# Altium integrated library TI Data Converters Digital to Analog Converter.IntLib: 1533 symbols (part 79 of 99)
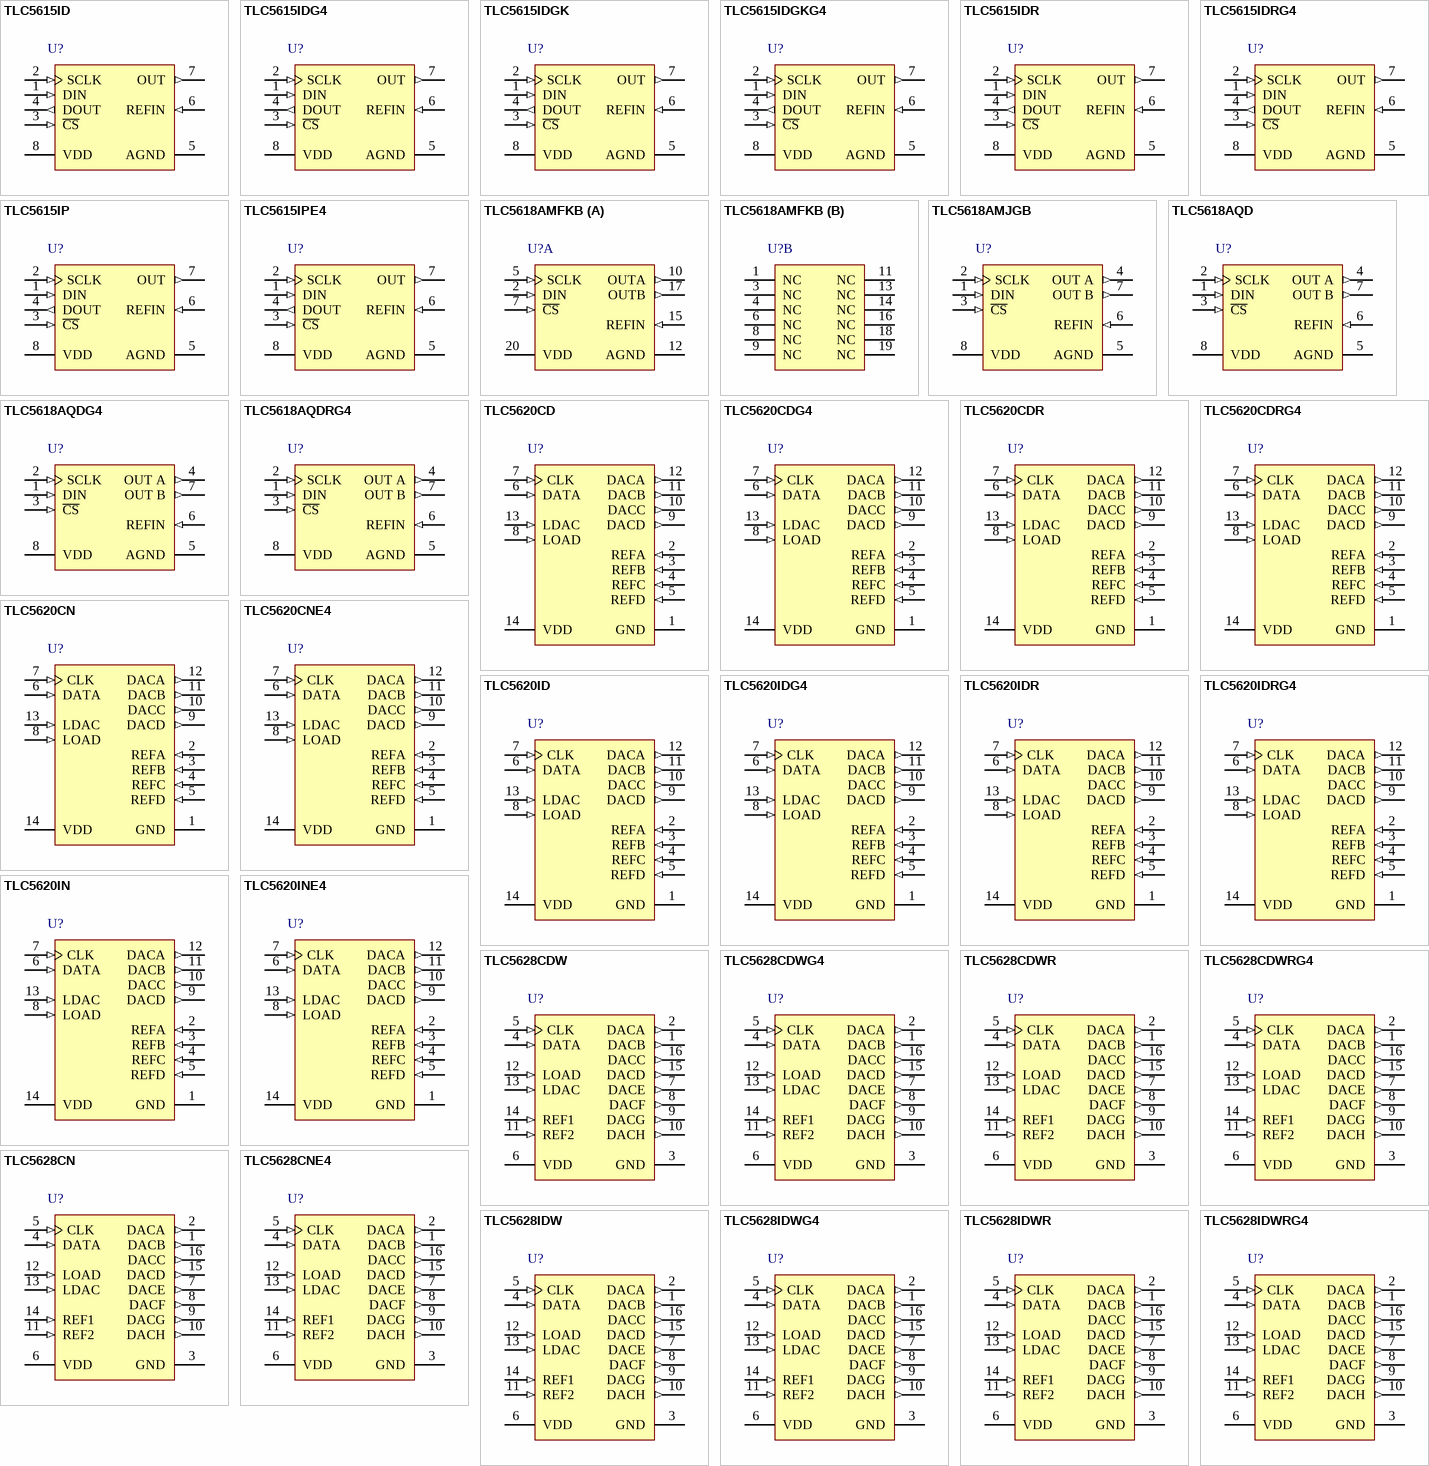
[diagram p151: symbols TLC5615ID to TLC5628IDWRG4]

## TLC5620IDG4
designator U?
8-Bit, 10 us Quad DAC, Serial Input, Programmable for 1 x or 2 x Output, Simultaneous Update, Low Power, -40 to 85 degC, 14-pin SOIC (D14), Green (RoHS & no Sb/Br); Manufacturer: Texas Instruments; PartNumber: TLC5620IDG4; DAC Channels: 4; DNL(Max)(+/-LSB): 0.9; INL(Max)(+/-LSB): 1; Interface: Serial SPI; Power Consumption(Typ)(mW): 8; Settling Time(us): 10; SubFamily: Precision DAC (=<10MSPS); DatasheetVersion: SLAS081E; PackageVersion: 4040047-5/M, 06/2011; PackageReference: D14; PackageDescription: 14-Pin Plastic Small Outline, Body 8.65 x 3.9 mm, Pitch 1.27 mm; Supplier 1: Digi-Key; Supplier Part Number 1: TLC5620IDG4-ND; Supplier 2: Mouser; Supplier Part Number 2: 595-TLC5620IDG4; Eco-Plan: Green (RoHS & no Sb/Br); Resolution(Bits): 8; Mounting Technology: Surface Mount; Code_JEDEC: MS-012; ComponentLink1Description: Manufacturer URL; ComponentLink1URL: http://www.ti.com/; ComponentLink2Description: Datasheet; ComponentLink2URL: http://www.ti.com/general/docs/lit/getliterature.tsp?genericPartNumber=TLC5620&fileType=pdf; ComponentLink3Description: Package Specification; ComponentLink3URL: http://www.ti.com/lit/ml/mpds177g/mpds177g.pdf
footprint TI-D14_N (SOIC, 14-Leads, Body 8.65x3.9mm, Pitch 1.27mm, IPC Medium Density)
footprint TI-D14_L (SOIC, 14-Leads, Body 8.65x3.9mm, Pitch 1.27mm, IPC High Density)
footprint TI-D14_M (SOIC, 14-Leads, Body 8.65x3.9mm, Pitch 1.27mm, IPC Low Density)
pins: 1 GND (power) "Ground return and reference", 2 REFA (in) "Reference voltage input to DAC A. This voltage defines the output analog range.", 3 REFB (in) "Reference voltage input to DAC B. This voltage defines the output analog range.", 4 REFC (in) "Reference voltage input to DAC C. This voltage defines the output analog range.", 5 REFD (in) "Reference voltage input to DAC D. This voltage defines the output analog range.", 6 DATA (in) "Serial interface digital data input. The digital code for the DAC is clocked into the serial interface register serially. Each data bit is clocked into the register on the falling edge of the clock signal.", 7 CLK (in) "Serial interface clock. The input digital data is shifted into the serial interface register on the falling edge of the clock applied to the CLK terminal.", 8 LOAD (in) "Serial interface load control. When the LDAC terminal is low, the falling edge of the LOAD signal latches the digital data into the output latch and immediately produces the analog voltage at the DAC output terminal.", 9 DACD (out) "DAC D analog output", 10 DACC (out) "DAC C analog output", 11 DACB (out) "DAC B analog output", 12 DACA (out) "DAC A analog output", 13 LDAC (in) "Load DAC. When this signal is high, no DAC output updates occur when the input digital data is read into the serial interface. The DAC outputs are only updated when LDAC is taken from high to low.", 14 VDD (power) "Positive supply voltage"

## TLC5620IDR
designator U?
8-Bit, 10 us Quad DAC, Serial Input, Programmable for 1 x or 2 x Output, Simultaneous Update, Low Power, -40 to 85 degC, 14-pin SOIC (D14), Green (RoHS & no Sb/Br); Manufacturer: Texas Instruments; PartNumber: TLC5620IDR; DAC Channels: 4; DNL(Max)(+/-LSB): 0.9; INL(Max)(+/-LSB): 1; Interface: Serial SPI; Power Consumption(Typ)(mW): 8; Settling Time(us): 10; SubFamily: Precision DAC (=<10MSPS); DatasheetVersion: SLAS081E; PackageVersion: 4040047-5/M, 06/2011; PackageReference: D14; PackageDescription: 14-Pin Plastic Small Outline, Body 8.65 x 3.9 mm, Pitch 1.27 mm; Supplier 1: Digi-Key; Supplier Part Number 1: 296-1339-2-ND; Supplier 2: Digi-Key; Supplier Part Number 2: 296-1339-1-ND; Supplier 3: Digi-Key; Supplier Part Number 3: 296-1339-6-ND; Supplier 4: Mouser; Supplier Part Number 4: 595-TLC5620IDR; Eco-Plan: Green (RoHS & no Sb/Br); Resolution(Bits): 8; Mounting Technology: Surface Mount; Code_JEDEC: MS-012; ComponentLink1Description: Manufacturer URL; ComponentLink1URL: http://www.ti.com/; ComponentLink2Description: Datasheet; ComponentLink2URL: http://www.ti.com/general/docs/lit/getliterature.tsp?genericPartNumber=TLC5620&fileType=pdf; ComponentLink3Description: Package Specification; ComponentLink3URL: http://www.ti.com/lit/ml/mpds177g/mpds177g.pdf
footprint TI-D14_N (SOIC, 14-Leads, Body 8.65x3.9mm, Pitch 1.27mm, IPC Medium Density)
footprint TI-D14_L (SOIC, 14-Leads, Body 8.65x3.9mm, Pitch 1.27mm, IPC High Density)
footprint TI-D14_M (SOIC, 14-Leads, Body 8.65x3.9mm, Pitch 1.27mm, IPC Low Density)
pins: 1 GND (power) "Ground return and reference", 2 REFA (in) "Reference voltage input to DAC A. This voltage defines the output analog range.", 3 REFB (in) "Reference voltage input to DAC B. This voltage defines the output analog range.", 4 REFC (in) "Reference voltage input to DAC C. This voltage defines the output analog range.", 5 REFD (in) "Reference voltage input to DAC D. This voltage defines the output analog range.", 6 DATA (in) "Serial interface digital data input. The digital code for the DAC is clocked into the serial interface register serially. Each data bit is clocked into the register on the falling edge of the clock signal.", 7 CLK (in) "Serial interface clock. The input digital data is shifted into the serial interface register on the falling edge of the clock applied to the CLK terminal.", 8 LOAD (in) "Serial interface load control. When the LDAC terminal is low, the falling edge of the LOAD signal latches the digital data into the output latch and immediately produces the analog voltage at the DAC output terminal.", 9 DACD (out) "DAC D analog output", 10 DACC (out) "DAC C analog output", 11 DACB (out) "DAC B analog output", 12 DACA (out) "DAC A analog output", 13 LDAC (in) "Load DAC. When this signal is high, no DAC output updates occur when the input digital data is read into the serial interface. The DAC outputs are only updated when LDAC is taken from high to low.", 14 VDD (power) "Positive supply voltage"

## TLC5620IDRG4
designator U?
8-Bit, 10 us Quad DAC, Serial Input, Programmable for 1 x or 2 x Output, Simultaneous Update, Low Power, -40 to 85 degC, 14-pin SOIC (D14), Green (RoHS & no Sb/Br); Manufacturer: Texas Instruments; PartNumber: TLC5620IDRG4; DAC Channels: 4; DNL(Max)(+/-LSB): 0.9; INL(Max)(+/-LSB): 1; Interface: Serial SPI; Power Consumption(Typ)(mW): 8; Settling Time(us): 10; SubFamily: Precision DAC (=<10MSPS); DatasheetVersion: SLAS081E; PackageVersion: 4040047-5/M, 06/2011; PackageReference: D14; PackageDescription: 14-Pin Plastic Small Outline, Body 8.65 x 3.9 mm, Pitch 1.27 mm; Supplier 1: Digi-Key; Supplier Part Number 1: TLC5620IDRG4-ND; Supplier 2: Mouser; Supplier Part Number 2: 595-TLC5620IDRG4; Eco-Plan: Green (RoHS & no Sb/Br); Resolution(Bits): 8; Mounting Technology: Surface Mount; Code_JEDEC: MS-012; ComponentLink1Description: Manufacturer URL; ComponentLink1URL: http://www.ti.com/; ComponentLink2Description: Datasheet; ComponentLink2URL: http://www.ti.com/general/docs/lit/getliterature.tsp?genericPartNumber=TLC5620&fileType=pdf; ComponentLink3Description: Package Specification; ComponentLink3URL: http://www.ti.com/lit/ml/mpds177g/mpds177g.pdf
footprint TI-D14_N (SOIC, 14-Leads, Body 8.65x3.9mm, Pitch 1.27mm, IPC Medium Density)
footprint TI-D14_L (SOIC, 14-Leads, Body 8.65x3.9mm, Pitch 1.27mm, IPC High Density)
footprint TI-D14_M (SOIC, 14-Leads, Body 8.65x3.9mm, Pitch 1.27mm, IPC Low Density)
pins: 1 GND (power) "Ground return and reference", 2 REFA (in) "Reference voltage input to DAC A. This voltage defines the output analog range.", 3 REFB (in) "Reference voltage input to DAC B. This voltage defines the output analog range.", 4 REFC (in) "Reference voltage input to DAC C. This voltage defines the output analog range.", 5 REFD (in) "Reference voltage input to DAC D. This voltage defines the output analog range.", 6 DATA (in) "Serial interface digital data input. The digital code for the DAC is clocked into the serial interface register serially. Each data bit is clocked into the register on the falling edge of the clock signal.", 7 CLK (in) "Serial interface clock. The input digital data is shifted into the serial interface register on the falling edge of the clock applied to the CLK terminal.", 8 LOAD (in) "Serial interface load control. When the LDAC terminal is low, the falling edge of the LOAD signal latches the digital data into the output latch and immediately produces the analog voltage at the DAC output terminal.", 9 DACD (out) "DAC D analog output", 10 DACC (out) "DAC C analog output", 11 DACB (out) "DAC B analog output", 12 DACA (out) "DAC A analog output", 13 LDAC (in) "Load DAC. When this signal is high, no DAC output updates occur when the input digital data is read into the serial interface. The DAC outputs are only updated when LDAC is taken from high to low.", 14 VDD (power) "Positive supply voltage"

## TLC5620IN
designator U?
8-Bit, 10 us Quad DAC, Serial Input, Programmable for 1 x or 2 x Output, Simultaneous Update, Low Power, -40 to 85 degC, 14-pin DIP (N14), Pb-Free (RoHS); Manufacturer: Texas Instruments; PartNumber: TLC5620IN; DAC Channels: 4; DNL(Max)(+/-LSB): 0.9; INL(Max)(+/-LSB): 1; Interface: Serial SPI; Power Consumption(Typ)(mW): 8; Settling Time(us): 10; SubFamily: Precision DAC (=<10MSPS); DatasheetVersion: SLAS081E; PackageVersion: 4040049/E, 12/2002; PackageReference: N14; PackageDescription: 14-Pin Plastic In-Line, Body 19.305 x 6.35 mm, Pitch 2.54 mm; Supplier 1: Digi-Key; Supplier Part Number 1: 296-3012-5-ND; Supplier 2: Mouser; Supplier Part Number 2: 595-TLC5620IN; Eco-Plan: Pb-Free (RoHS); Resolution(Bits): 8; Mounting Technology: Through Hole; Code_JEDEC: MS-001; ComponentLink1Description: Manufacturer URL; ComponentLink1URL: http://www.ti.com/; ComponentLink2Description: Datasheet; ComponentLink2URL: http://www.ti.com/general/docs/lit/getliterature.tsp?genericPartNumber=TLC5620&fileType=pdf; ComponentLink3Description: Package Specification; ComponentLink3URL: http://www.ti.com/lit/ml/mpdi002c/mpdi002c.pdf
footprint TI-N14 (DIP, 14-Leads, Body 19.305x6.35mm, Pitch 2.54mm)
pins: 1 GND (power) "Ground return and reference", 2 REFA (in) "Reference voltage input to DAC A. This voltage defines the output analog range.", 3 REFB (in) "Reference voltage input to DAC B. This voltage defines the output analog range.", 4 REFC (in) "Reference voltage input to DAC C. This voltage defines the output analog range.", 5 REFD (in) "Reference voltage input to DAC D. This voltage defines the output analog range.", 6 DATA (in) "Serial interface digital data input. The digital code for the DAC is clocked into the serial interface register serially. Each data bit is clocked into the register on the falling edge of the clock signal.", 7 CLK (in) "Serial interface clock. The input digital data is shifted into the serial interface register on the falling edge of the clock applied to the CLK terminal.", 8 LOAD (in) "Serial interface load control. When the LDAC terminal is low, the falling edge of the LOAD signal latches the digital data into the output latch and immediately produces the analog voltage at the DAC output terminal.", 9 DACD (out) "DAC D analog output", 10 DACC (out) "DAC C analog output", 11 DACB (out) "DAC B analog output", 12 DACA (out) "DAC A analog output", 13 LDAC (in) "Load DAC. When this signal is high, no DAC output updates occur when the input digital data is read into the serial interface. The DAC outputs are only updated when LDAC is taken from high to low.", 14 VDD (power) "Positive supply voltage"

## TLC5620INE4
designator U?
8-Bit, 10 us Quad DAC, Serial Input, Programmable for 1 x or 2 x Output, Simultaneous Update, Low Power, -40 to 85 degC, 14-pin DIP (N14), Pb-Free (RoHS); Manufacturer: Texas Instruments; PartNumber: TLC5620INE4; DAC Channels: 4; DNL(Max)(+/-LSB): 0.9; INL(Max)(+/-LSB): 1; Interface: Serial SPI; Power Consumption(Typ)(mW): 8; Settling Time(us): 10; SubFamily: Precision DAC (=<10MSPS); DatasheetVersion: SLAS081E; PackageVersion: 4040049/E, 12/2002; PackageReference: N14; PackageDescription: 14-Pin Plastic In-Line, Body 19.305 x 6.35 mm, Pitch 2.54 mm; Supplier 1: Digi-Key; Supplier Part Number 1: TLC5620INE4-ND; Supplier 2: Mouser; Supplier Part Number 2: 595-TLC5620INE4; Eco-Plan: Pb-Free (RoHS); Resolution(Bits): 8; Mounting Technology: Through Hole; Code_JEDEC: MS-001; ComponentLink1Description: Manufacturer URL; ComponentLink1URL: http://www.ti.com/; ComponentLink2Description: Datasheet; ComponentLink2URL: http://www.ti.com/general/docs/lit/getliterature.tsp?genericPartNumber=TLC5620&fileType=pdf; ComponentLink3Description: Package Specification; ComponentLink3URL: http://www.ti.com/lit/ml/mpdi002c/mpdi002c.pdf
footprint TI-N14 (DIP, 14-Leads, Body 19.305x6.35mm, Pitch 2.54mm)
pins: 1 GND (power) "Ground return and reference", 2 REFA (in) "Reference voltage input to DAC A. This voltage defines the output analog range.", 3 REFB (in) "Reference voltage input to DAC B. This voltage defines the output analog range.", 4 REFC (in) "Reference voltage input to DAC C. This voltage defines the output analog range.", 5 REFD (in) "Reference voltage input to DAC D. This voltage defines the output analog range.", 6 DATA (in) "Serial interface digital data input. The digital code for the DAC is clocked into the serial interface register serially. Each data bit is clocked into the register on the falling edge of the clock signal.", 7 CLK (in) "Serial interface clock. The input digital data is shifted into the serial interface register on the falling edge of the clock applied to the CLK terminal.", 8 LOAD (in) "Serial interface load control. When the LDAC terminal is low, the falling edge of the LOAD signal latches the digital data into the output latch and immediately produces the analog voltage at the DAC output terminal.", 9 DACD (out) "DAC D analog output", 10 DACC (out) "DAC C analog output", 11 DACB (out) "DAC B analog output", 12 DACA (out) "DAC A analog output", 13 LDAC (in) "Load DAC. When this signal is high, no DAC output updates occur when the input digital data is read into the serial interface. The DAC outputs are only updated when LDAC is taken from high to low.", 14 VDD (power) "Positive supply voltage"

## TLC5628CDW
designator U?
8-Bit, 10 us Octal DAC, Serial Input, Programmable for 1 x or 2 x Output, Simultaneous Update, Low Power, 0 to 70 degC, 16-pin SOIC (DW16), Green (RoHS & no Sb/Br); Manufacturer: Texas Instruments; PartNumber: TLC5628CDW; DAC Channels: 8; DNL(Max)(+/-LSB): 0.9; INL(Max)(+/-LSB): 1; Interface: Serial SPI; Power Consumption(Typ)(mW): 15; Settling Time(us): 10; SubFamily: Precision DAC (=<10MSPS); DatasheetVersion: SLAS089E; PackageVersion: 4040000-2/G, 01/2011; PackageReference: DW16; PackageDescription: 16-Pin Plastic Small Outline, Body 10.30 x 7.50 mm, Pitch 1.27 mm; Supplier 1: Digi-Key; Supplier Part Number 1: 296-1864-5-ND; Supplier 2: Mouser; Supplier Part Number 2: 595-TLC5628CDW; Eco-Plan: Green (RoHS & no Sb/Br); Resolution(Bits): 8; Mounting Technology: Surface Mount; Code_JEDEC: MS-013; ComponentLink1Description: Manufacturer URL; ComponentLink1URL: http://www.ti.com/; ComponentLink2Description: Datasheet; ComponentLink2URL: http://www.ti.com/general/docs/lit/getliterature.tsp?genericPartNumber=TLC5628&fileType=pdf; ComponentLink3Description: Package Specification; ComponentLink3URL: http://www.ti.com/litv/pdf/msoi003g
footprint TI-DW16_N (SOIC, 16-Leads, Body 10.3x7.5mm, Pitch 1.27mm, IPC Medium Density)
footprint TI-DW16_L (SOIC, 16-Leads, Body 10.3x7.5mm, Pitch 1.27mm, IPC High Density)
footprint TI-DW16_M (SOIC, 16-Leads, Body 10.3x7.5mm, Pitch 1.27mm, IPC Low Density)
pins: 1 DACB (out) "DACB analog output", 2 DACA (out) "DACA analog output", 3 GND (power) "Ground return and reference terminal", 4 DATA (in) "Serial-interface digital data input", 5 CLK (in) "Serial-interface clock, data enters on the negative edge", 6 VDD (power) "Positive supply voltage", 7 DACE (out) "DACE analog output", 8 DACF (out) "DACF analog output", 9 DACG (out) "DACG analog output", 10 DACH (out) "DACH analog output", 11 REF2 (in) "Reference voltage input to DACB", 12 LOAD (in) "Serial-interface load control", 13 LDAC (in) "DAC-update latch control", 14 REF1 (in) "Reference voltage input to DACA", 15 DACD (out) "DACD analog output", 16 DACC (out) "DACC analog output"

## TLC5628CDWG4
designator U?
8-Bit, 10 us Octal DAC, Serial Input, Programmable for 1 x or 2 x Output, Simultaneous Update, Low Power, 0 to 70 degC, 16-pin SOIC (DW16), Green (RoHS & no Sb/Br); Manufacturer: Texas Instruments; PartNumber: TLC5628CDWG4; DAC Channels: 8; DNL(Max)(+/-LSB): 0.9; INL(Max)(+/-LSB): 1; Interface: Serial SPI; Power Consumption(Typ)(mW): 15; Settling Time(us): 10; SubFamily: Precision DAC (=<10MSPS); DatasheetVersion: SLAS089E; PackageVersion: 4040000-2/G, 01/2011; PackageReference: DW16; PackageDescription: 16-Pin Plastic Small Outline, Body 10.30 x 7.50 mm, Pitch 1.27 mm; Supplier 1: Digi-Key; Supplier Part Number 1: TLC5628CDWG4-ND; Supplier 2: Farnell; Supplier Part Number 2: 1234676; Supplier 3: Newark; Supplier Part Number 3: 13M3151; Supplier 4: Mouser; Supplier Part Number 4: 595-TLC5628CDWG4; Eco-Plan: Green (RoHS & no Sb/Br); Resolution(Bits): 8; Mounting Technology: Surface Mount; Code_JEDEC: MS-013; ComponentLink1Description: Manufacturer URL; ComponentLink1URL: http://www.ti.com/; ComponentLink2Description: Datasheet; ComponentLink2URL: http://www.ti.com/general/docs/lit/getliterature.tsp?genericPartNumber=TLC5628&fileType=pdf; ComponentLink3Description: Package Specification; ComponentLink3URL: http://www.ti.com/litv/pdf/msoi003g
footprint TI-DW16_N (SOIC, 16-Leads, Body 10.3x7.5mm, Pitch 1.27mm, IPC Medium Density)
footprint TI-DW16_L (SOIC, 16-Leads, Body 10.3x7.5mm, Pitch 1.27mm, IPC High Density)
footprint TI-DW16_M (SOIC, 16-Leads, Body 10.3x7.5mm, Pitch 1.27mm, IPC Low Density)
pins: 1 DACB (out) "DACB analog output", 2 DACA (out) "DACA analog output", 3 GND (power) "Ground return and reference terminal", 4 DATA (in) "Serial-interface digital data input", 5 CLK (in) "Serial-interface clock, data enters on the negative edge", 6 VDD (power) "Positive supply voltage", 7 DACE (out) "DACE analog output", 8 DACF (out) "DACF analog output", 9 DACG (out) "DACG analog output", 10 DACH (out) "DACH analog output", 11 REF2 (in) "Reference voltage input to DACB", 12 LOAD (in) "Serial-interface load control", 13 LDAC (in) "DAC-update latch control", 14 REF1 (in) "Reference voltage input to DACA", 15 DACD (out) "DACD analog output", 16 DACC (out) "DACC analog output"

## TLC5628CDWR
designator U?
8-Bit, 10 us Octal DAC, Serial Input, Programmable for 1 x or 2 x Output, Simultaneous Update, Low Power, 0 to 70 degC, 16-pin SOIC (DW16), Green (RoHS & no Sb/Br); Manufacturer: Texas Instruments; PartNumber: TLC5628CDWR; DAC Channels: 8; DNL(Max)(+/-LSB): 0.9; INL(Max)(+/-LSB): 1; Interface: Serial SPI; Power Consumption(Typ)(mW): 15; Settling Time(us): 10; SubFamily: Precision DAC (=<10MSPS); DatasheetVersion: SLAS089E; PackageVersion: 4040000-2/G, 01/2011; PackageReference: DW16; PackageDescription: 16-Pin Plastic Small Outline, Body 10.30 x 7.50 mm, Pitch 1.27 mm; Supplier 1: Digi-Key; Supplier Part Number 1: TLC5628CDWR-ND; Supplier 2: Mouser; Supplier Part Number 2: 595-TLC5628CDWR; Eco-Plan: Green (RoHS & no Sb/Br); Resolution(Bits): 8; Mounting Technology: Surface Mount; Code_JEDEC: MS-013; ComponentLink1Description: Manufacturer URL; ComponentLink1URL: http://www.ti.com/; ComponentLink2Description: Datasheet; ComponentLink2URL: http://www.ti.com/general/docs/lit/getliterature.tsp?genericPartNumber=TLC5628&fileType=pdf; ComponentLink3Description: Package Specification; ComponentLink3URL: http://www.ti.com/litv/pdf/msoi003g
footprint TI-DW16_N (SOIC, 16-Leads, Body 10.3x7.5mm, Pitch 1.27mm, IPC Medium Density)
footprint TI-DW16_L (SOIC, 16-Leads, Body 10.3x7.5mm, Pitch 1.27mm, IPC High Density)
footprint TI-DW16_M (SOIC, 16-Leads, Body 10.3x7.5mm, Pitch 1.27mm, IPC Low Density)
pins: 1 DACB (out) "DACB analog output", 2 DACA (out) "DACA analog output", 3 GND (power) "Ground return and reference terminal", 4 DATA (in) "Serial-interface digital data input", 5 CLK (in) "Serial-interface clock, data enters on the negative edge", 6 VDD (power) "Positive supply voltage", 7 DACE (out) "DACE analog output", 8 DACF (out) "DACF analog output", 9 DACG (out) "DACG analog output", 10 DACH (out) "DACH analog output", 11 REF2 (in) "Reference voltage input to DACB", 12 LOAD (in) "Serial-interface load control", 13 LDAC (in) "DAC-update latch control", 14 REF1 (in) "Reference voltage input to DACA", 15 DACD (out) "DACD analog output", 16 DACC (out) "DACC analog output"

## TLC5628CDWRG4
designator U?
8-Bit, 10 us Octal DAC, Serial Input, Programmable for 1 x or 2 x Output, Simultaneous Update, Low Power, 0 to 70 degC, 16-pin SOIC (DW16), Green (RoHS & no Sb/Br); Manufacturer: Texas Instruments; PartNumber: TLC5628CDWRG4; DAC Channels: 8; DNL(Max)(+/-LSB): 0.9; INL(Max)(+/-LSB): 1; Interface: Serial SPI; Power Consumption(Typ)(mW): 15; Settling Time(us): 10; SubFamily: Precision DAC (=<10MSPS); DatasheetVersion: SLAS089E; PackageVersion: 4040000-2/G, 01/2011; PackageReference: DW16; PackageDescription: 16-Pin Plastic Small Outline, Body 10.30 x 7.50 mm, Pitch 1.27 mm; Supplier 1: Digi-Key; Supplier Part Number 1: TLC5628CDWRG4-ND; Supplier 2: Mouser; Supplier Part Number 2: 595-TLC5628CDWRG4; Eco-Plan: Green (RoHS & no Sb/Br); Resolution(Bits): 8; Mounting Technology: Surface Mount; Code_JEDEC: MS-013; ComponentLink1Description: Manufacturer URL; ComponentLink1URL: http://www.ti.com/; ComponentLink2Description: Datasheet; ComponentLink2URL: http://www.ti.com/general/docs/lit/getliterature.tsp?genericPartNumber=TLC5628&fileType=pdf; ComponentLink3Description: Package Specification; ComponentLink3URL: http://www.ti.com/litv/pdf/msoi003g
footprint TI-DW16_N (SOIC, 16-Leads, Body 10.3x7.5mm, Pitch 1.27mm, IPC Medium Density)
footprint TI-DW16_L (SOIC, 16-Leads, Body 10.3x7.5mm, Pitch 1.27mm, IPC High Density)
footprint TI-DW16_M (SOIC, 16-Leads, Body 10.3x7.5mm, Pitch 1.27mm, IPC Low Density)
pins: 1 DACB (out) "DACB analog output", 2 DACA (out) "DACA analog output", 3 GND (power) "Ground return and reference terminal", 4 DATA (in) "Serial-interface digital data input", 5 CLK (in) "Serial-interface clock, data enters on the negative edge", 6 VDD (power) "Positive supply voltage", 7 DACE (out) "DACE analog output", 8 DACF (out) "DACF analog output", 9 DACG (out) "DACG analog output", 10 DACH (out) "DACH analog output", 11 REF2 (in) "Reference voltage input to DACB", 12 LOAD (in) "Serial-interface load control", 13 LDAC (in) "DAC-update latch control", 14 REF1 (in) "Reference voltage input to DACA", 15 DACD (out) "DACD analog output", 16 DACC (out) "DACC analog output"

## TLC5628CN
designator U?
8-Bit, 10 us Octal DAC, Serial Input, Programmable for 1 x or 2 x Output, Simultaneous Update, Low Power, 0 to 70 degC, 16-pin DIP (N16), Pb-Free (RoHS); Manufacturer: Texas Instruments; PartNumber: TLC5628CN; DAC Channels: 8; DNL(Max)(+/-LSB): 0.9; INL(Max)(+/-LSB): 1; Interface: Serial SPI; Power Consumption(Typ)(mW): 15; Settling Time(us): 10; SubFamily: Precision DAC (=<10MSPS); DatasheetVersion: SLAS089E; PackageVersion: 4040049/E, 12/2002; PackageReference: N16; PackageDescription: 16-Pin Plastic In-Line, Body 19.305 x 6.35 mm, Pitch 2.54 mm; Supplier 1: Digi-Key; Supplier Part Number 1: 296-1865-5-ND; Supplier 2: Farnell; Supplier Part Number 2: 8454515; Supplier 3: Newark; Supplier Part Number 3: 38K8373; Supplier 4: Newark; Supplier Part Number 4: 52F2733; Supplier 5: Mouser; Supplier Part Number 5: 595-TLC5628CN; Eco-Plan: Pb-Free (RoHS); Resolution(Bits): 8; Mounting Technology: Through Hole; Code_JEDEC: MS-001; ComponentLink1Description: Manufacturer URL; ComponentLink1URL: http://www.ti.com/; ComponentLink2Description: Datasheet; ComponentLink2URL: http://www.ti.com/general/docs/lit/getliterature.tsp?genericPartNumber=TLC5628&fileType=pdf; ComponentLink3Description: Package Specification; ComponentLink3URL: http://www.ti.com/litv/pdf/mpdi002c
footprint TI-N16 (DIP, 16-Leads, Body 19.305x6.35mm, Pitch 2.54mm)
pins: 1 DACB (out) "DACB analog output", 2 DACA (out) "DACA analog output", 3 GND (power) "Ground return and reference terminal", 4 DATA (in) "Serial-interface digital data input", 5 CLK (in) "Serial-interface clock, data enters on the negative edge", 6 VDD (power) "Positive supply voltage", 7 DACE (out) "DACE analog output", 8 DACF (out) "DACF analog output", 9 DACG (out) "DACG analog output", 10 DACH (out) "DACH analog output", 11 REF2 (in) "Reference voltage input to DACB", 12 LOAD (in) "Serial-interface load control", 13 LDAC (in) "DAC-update latch control", 14 REF1 (in) "Reference voltage input to DACA", 15 DACD (out) "DACD analog output", 16 DACC (out) "DACC analog output"

## TLC5628CNE4
designator U?
8-Bit, 10 us Octal DAC, Serial Input, Programmable for 1 x or 2 x Output, Simultaneous Update, Low Power, 0 to 70 degC, 16-pin DIP (N16), Pb-Free (RoHS); Manufacturer: Texas Instruments; PartNumber: TLC5628CNE4; DAC Channels: 8; DNL(Max)(+/-LSB): 0.9; INL(Max)(+/-LSB): 1; Interface: Serial SPI; Power Consumption(Typ)(mW): 15; Settling Time(us): 10; SubFamily: Precision DAC (=<10MSPS); DatasheetVersion: SLAS089E; PackageVersion: 4040049/E, 12/2002; PackageReference: N16; PackageDescription: 16-Pin Plastic In-Line, Body 19.305 x 6.35 mm, Pitch 2.54 mm; Supplier 1: Digi-Key; Supplier Part Number 1: TLC5628CNE4-ND; Supplier 2: Mouser; Supplier Part Number 2: 595-TLC5628CNE4; Eco-Plan: Pb-Free (RoHS); Resolution(Bits): 8; Mounting Technology: Through Hole; Code_JEDEC: MS-001; ComponentLink1Description: Manufacturer URL; ComponentLink1URL: http://www.ti.com/; ComponentLink2Description: Datasheet; ComponentLink2URL: http://www.ti.com/general/docs/lit/getliterature.tsp?genericPartNumber=TLC5628&fileType=pdf; ComponentLink3Description: Package Specification; ComponentLink3URL: http://www.ti.com/litv/pdf/mpdi002c
footprint TI-N16 (DIP, 16-Leads, Body 19.305x6.35mm, Pitch 2.54mm)
pins: 1 DACB (out) "DACB analog output", 2 DACA (out) "DACA analog output", 3 GND (power) "Ground return and reference terminal", 4 DATA (in) "Serial-interface digital data input", 5 CLK (in) "Serial-interface clock, data enters on the negative edge", 6 VDD (power) "Positive supply voltage", 7 DACE (out) "DACE analog output", 8 DACF (out) "DACF analog output", 9 DACG (out) "DACG analog output", 10 DACH (out) "DACH analog output", 11 REF2 (in) "Reference voltage input to DACB", 12 LOAD (in) "Serial-interface load control", 13 LDAC (in) "DAC-update latch control", 14 REF1 (in) "Reference voltage input to DACA", 15 DACD (out) "DACD analog output", 16 DACC (out) "DACC analog output"

## TLC5628IDW
designator U?
8-Bit, 10 us Octal DAC, Serial Input, Programmable for 1 x or 2 x Output, Simultaneous Update, Low Power, -40 to 85 degC, 16-pin SOIC (DW16), Green (RoHS & no Sb/Br); Manufacturer: Texas Instruments; PartNumber: TLC5628IDW; DAC Channels: 8; DNL(Max)(+/-LSB): 0.9; INL(Max)(+/-LSB): 1; Interface: Serial SPI; Power Consumption(Typ)(mW): 15; Settling Time(us): 10; SubFamily: Precision DAC (=<10MSPS); DatasheetVersion: SLAS089E; PackageVersion: 4040000-2/G, 01/2011; PackageReference: DW16; PackageDescription: 16-Pin Plastic Small Outline, Body 10.30 x 7.50 mm, Pitch 1.27 mm; Supplier 1: Digi-Key; Supplier Part Number 1: 296-3013-5-ND; Supplier 2: Mouser; Supplier Part Number 2: 595-TLC5628IDW; Eco-Plan: Green (RoHS & no Sb/Br); Resolution(Bits): 8; Mounting Technology: Surface Mount; Code_JEDEC: MS-013; ComponentLink1Description: Manufacturer URL; ComponentLink1URL: http://www.ti.com/; ComponentLink2Description: Datasheet; ComponentLink2URL: http://www.ti.com/general/docs/lit/getliterature.tsp?genericPartNumber=TLC5628&fileType=pdf; ComponentLink3Description: Package Specification; ComponentLink3URL: http://www.ti.com/litv/pdf/msoi003g
footprint TI-DW16_N (SOIC, 16-Leads, Body 10.3x7.5mm, Pitch 1.27mm, IPC Medium Density)
footprint TI-DW16_L (SOIC, 16-Leads, Body 10.3x7.5mm, Pitch 1.27mm, IPC High Density)
footprint TI-DW16_M (SOIC, 16-Leads, Body 10.3x7.5mm, Pitch 1.27mm, IPC Low Density)
pins: 1 DACB (out) "DACB analog output", 2 DACA (out) "DACA analog output", 3 GND (power) "Ground return and reference terminal", 4 DATA (in) "Serial-interface digital data input", 5 CLK (in) "Serial-interface clock, data enters on the negative edge", 6 VDD (power) "Positive supply voltage", 7 DACE (out) "DACE analog output", 8 DACF (out) "DACF analog output", 9 DACG (out) "DACG analog output", 10 DACH (out) "DACH analog output", 11 REF2 (in) "Reference voltage input to DACB", 12 LOAD (in) "Serial-interface load control", 13 LDAC (in) "DAC-update latch control", 14 REF1 (in) "Reference voltage input to DACA", 15 DACD (out) "DACD analog output", 16 DACC (out) "DACC analog output"

## TLC5628IDWG4
designator U?
8-Bit, 10 us Octal DAC, Serial Input, Programmable for 1 x or 2 x Output, Simultaneous Update, Low Power, -40 to 85 degC, 16-pin SOIC (DW16), Green (RoHS & no Sb/Br); Manufacturer: Texas Instruments; PartNumber: TLC5628IDWG4; DAC Channels: 8; DNL(Max)(+/-LSB): 0.9; INL(Max)(+/-LSB): 1; Interface: Serial SPI; Power Consumption(Typ)(mW): 15; Settling Time(us): 10; SubFamily: Precision DAC (=<10MSPS); DatasheetVersion: SLAS089E; PackageVersion: 4040000-2/G, 01/2011; PackageReference: DW16; PackageDescription: 16-Pin Plastic Small Outline, Body 10.30 x 7.50 mm, Pitch 1.27 mm; Supplier 1: Digi-Key; Supplier Part Number 1: TLC5628IDWG4-ND; Supplier 2: Mouser; Supplier Part Number 2: 595-TLC5628IDWG4; Eco-Plan: Green (RoHS & no Sb/Br); Resolution(Bits): 8; Mounting Technology: Surface Mount; Code_JEDEC: MS-013; ComponentLink1Description: Manufacturer URL; ComponentLink1URL: http://www.ti.com/; ComponentLink2Description: Datasheet; ComponentLink2URL: http://www.ti.com/general/docs/lit/getliterature.tsp?genericPartNumber=TLC5628&fileType=pdf; ComponentLink3Description: Package Specification; ComponentLink3URL: http://www.ti.com/litv/pdf/msoi003g
footprint TI-DW16_N (SOIC, 16-Leads, Body 10.3x7.5mm, Pitch 1.27mm, IPC Medium Density)
footprint TI-DW16_L (SOIC, 16-Leads, Body 10.3x7.5mm, Pitch 1.27mm, IPC High Density)
footprint TI-DW16_M (SOIC, 16-Leads, Body 10.3x7.5mm, Pitch 1.27mm, IPC Low Density)
pins: 1 DACB (out) "DACB analog output", 2 DACA (out) "DACA analog output", 3 GND (power) "Ground return and reference terminal", 4 DATA (in) "Serial-interface digital data input", 5 CLK (in) "Serial-interface clock, data enters on the negative edge", 6 VDD (power) "Positive supply voltage", 7 DACE (out) "DACE analog output", 8 DACF (out) "DACF analog output", 9 DACG (out) "DACG analog output", 10 DACH (out) "DACH analog output", 11 REF2 (in) "Reference voltage input to DACB", 12 LOAD (in) "Serial-interface load control", 13 LDAC (in) "DAC-update latch control", 14 REF1 (in) "Reference voltage input to DACA", 15 DACD (out) "DACD analog output", 16 DACC (out) "DACC analog output"

## TLC5628IDWR
designator U?
8-Bit, 10 us Octal DAC, Serial Input, Programmable for 1 x or 2 x Output, Simultaneous Update, Low Power, -40 to 85 degC, 16-pin SOIC (DW16), Green (RoHS & no Sb/Br); Manufacturer: Texas Instruments; PartNumber: TLC5628IDWR; DAC Channels: 8; DNL(Max)(+/-LSB): 0.9; INL(Max)(+/-LSB): 1; Interface: Serial SPI; Power Consumption(Typ)(mW): 15; Settling Time(us): 10; SubFamily: Precision DAC (=<10MSPS); DatasheetVersion: SLAS089E; PackageVersion: 4040000-2/G, 01/2011; PackageReference: DW16; PackageDescription: 16-Pin Plastic Small Outline, Body 10.30 x 7.50 mm, Pitch 1.27 mm; Supplier 1: Digi-Key; Supplier Part Number 1: TLC5628IDWR-ND; Supplier 2: Mouser; Supplier Part Number 2: 595-TLC5628IDWR; Eco-Plan: Green (RoHS & no Sb/Br); Resolution(Bits): 8; Mounting Technology: Surface Mount; Code_JEDEC: MS-013; ComponentLink1Description: Manufacturer URL; ComponentLink1URL: http://www.ti.com/; ComponentLink2Description: Datasheet; ComponentLink2URL: http://www.ti.com/general/docs/lit/getliterature.tsp?genericPartNumber=TLC5628&fileType=pdf; ComponentLink3Description: Package Specification; ComponentLink3URL: http://www.ti.com/litv/pdf/msoi003g
footprint TI-DW16_N (SOIC, 16-Leads, Body 10.3x7.5mm, Pitch 1.27mm, IPC Medium Density)
footprint TI-DW16_L (SOIC, 16-Leads, Body 10.3x7.5mm, Pitch 1.27mm, IPC High Density)
footprint TI-DW16_M (SOIC, 16-Leads, Body 10.3x7.5mm, Pitch 1.27mm, IPC Low Density)
pins: 1 DACB (out) "DACB analog output", 2 DACA (out) "DACA analog output", 3 GND (power) "Ground return and reference terminal", 4 DATA (in) "Serial-interface digital data input", 5 CLK (in) "Serial-interface clock, data enters on the negative edge", 6 VDD (power) "Positive supply voltage", 7 DACE (out) "DACE analog output", 8 DACF (out) "DACF analog output", 9 DACG (out) "DACG analog output", 10 DACH (out) "DACH analog output", 11 REF2 (in) "Reference voltage input to DACB", 12 LOAD (in) "Serial-interface load control", 13 LDAC (in) "DAC-update latch control", 14 REF1 (in) "Reference voltage input to DACA", 15 DACD (out) "DACD analog output", 16 DACC (out) "DACC analog output"

## TLC5628IDWRG4
designator U?
8-Bit, 10 us Octal DAC, Serial Input, Programmable for 1 x or 2 x Output, Simultaneous Update, Low Power, -40 to 85 degC, 16-pin SOIC (DW16), Green (RoHS & no Sb/Br); Manufacturer: Texas Instruments; PartNumber: TLC5628IDWRG4; DAC Channels: 8; DNL(Max)(+/-LSB): 0.9; INL(Max)(+/-LSB): 1; Interface: Serial SPI; Power Consumption(Typ)(mW): 15; Settling Time(us): 10; SubFamily: Precision DAC (=<10MSPS); DatasheetVersion: SLAS089E; PackageVersion: 4040000-2/G, 01/2011; PackageReference: DW16; PackageDescription: 16-Pin Plastic Small Outline, Body 10.30 x 7.50 mm, Pitch 1.27 mm; Supplier 1: Digi-Key; Supplier Part Number 1: TLC5628IDWRG4-ND; Supplier 2: Mouser; Supplier Part Number 2: 595-TLC5628IDWRG4; Eco-Plan: Green (RoHS & no Sb/Br); Resolution(Bits): 8; Mounting Technology: Surface Mount; Code_JEDEC: MS-013; ComponentLink1Description: Manufacturer URL; ComponentLink1URL: http://www.ti.com/; ComponentLink2Description: Datasheet; ComponentLink2URL: http://www.ti.com/general/docs/lit/getliterature.tsp?genericPartNumber=TLC5628&fileType=pdf; ComponentLink3Description: Package Specification; ComponentLink3URL: http://www.ti.com/litv/pdf/msoi003g
footprint TI-DW16_N (SOIC, 16-Leads, Body 10.3x7.5mm, Pitch 1.27mm, IPC Medium Density)
footprint TI-DW16_L (SOIC, 16-Leads, Body 10.3x7.5mm, Pitch 1.27mm, IPC High Density)
footprint TI-DW16_M (SOIC, 16-Leads, Body 10.3x7.5mm, Pitch 1.27mm, IPC Low Density)
pins: 1 DACB (out) "DACB analog output", 2 DACA (out) "DACA analog output", 3 GND (power) "Ground return and reference terminal", 4 DATA (in) "Serial-interface digital data input", 5 CLK (in) "Serial-interface clock, data enters on the negative edge", 6 VDD (power) "Positive supply voltage", 7 DACE (out) "DACE analog output", 8 DACF (out) "DACF analog output", 9 DACG (out) "DACG analog output", 10 DACH (out) "DACH analog output", 11 REF2 (in) "Reference voltage input to DACB", 12 LOAD (in) "Serial-interface load control", 13 LDAC (in) "DAC-update latch control", 14 REF1 (in) "Reference voltage input to DACA", 15 DACD (out) "DACD analog output", 16 DACC (out) "DACC analog output"

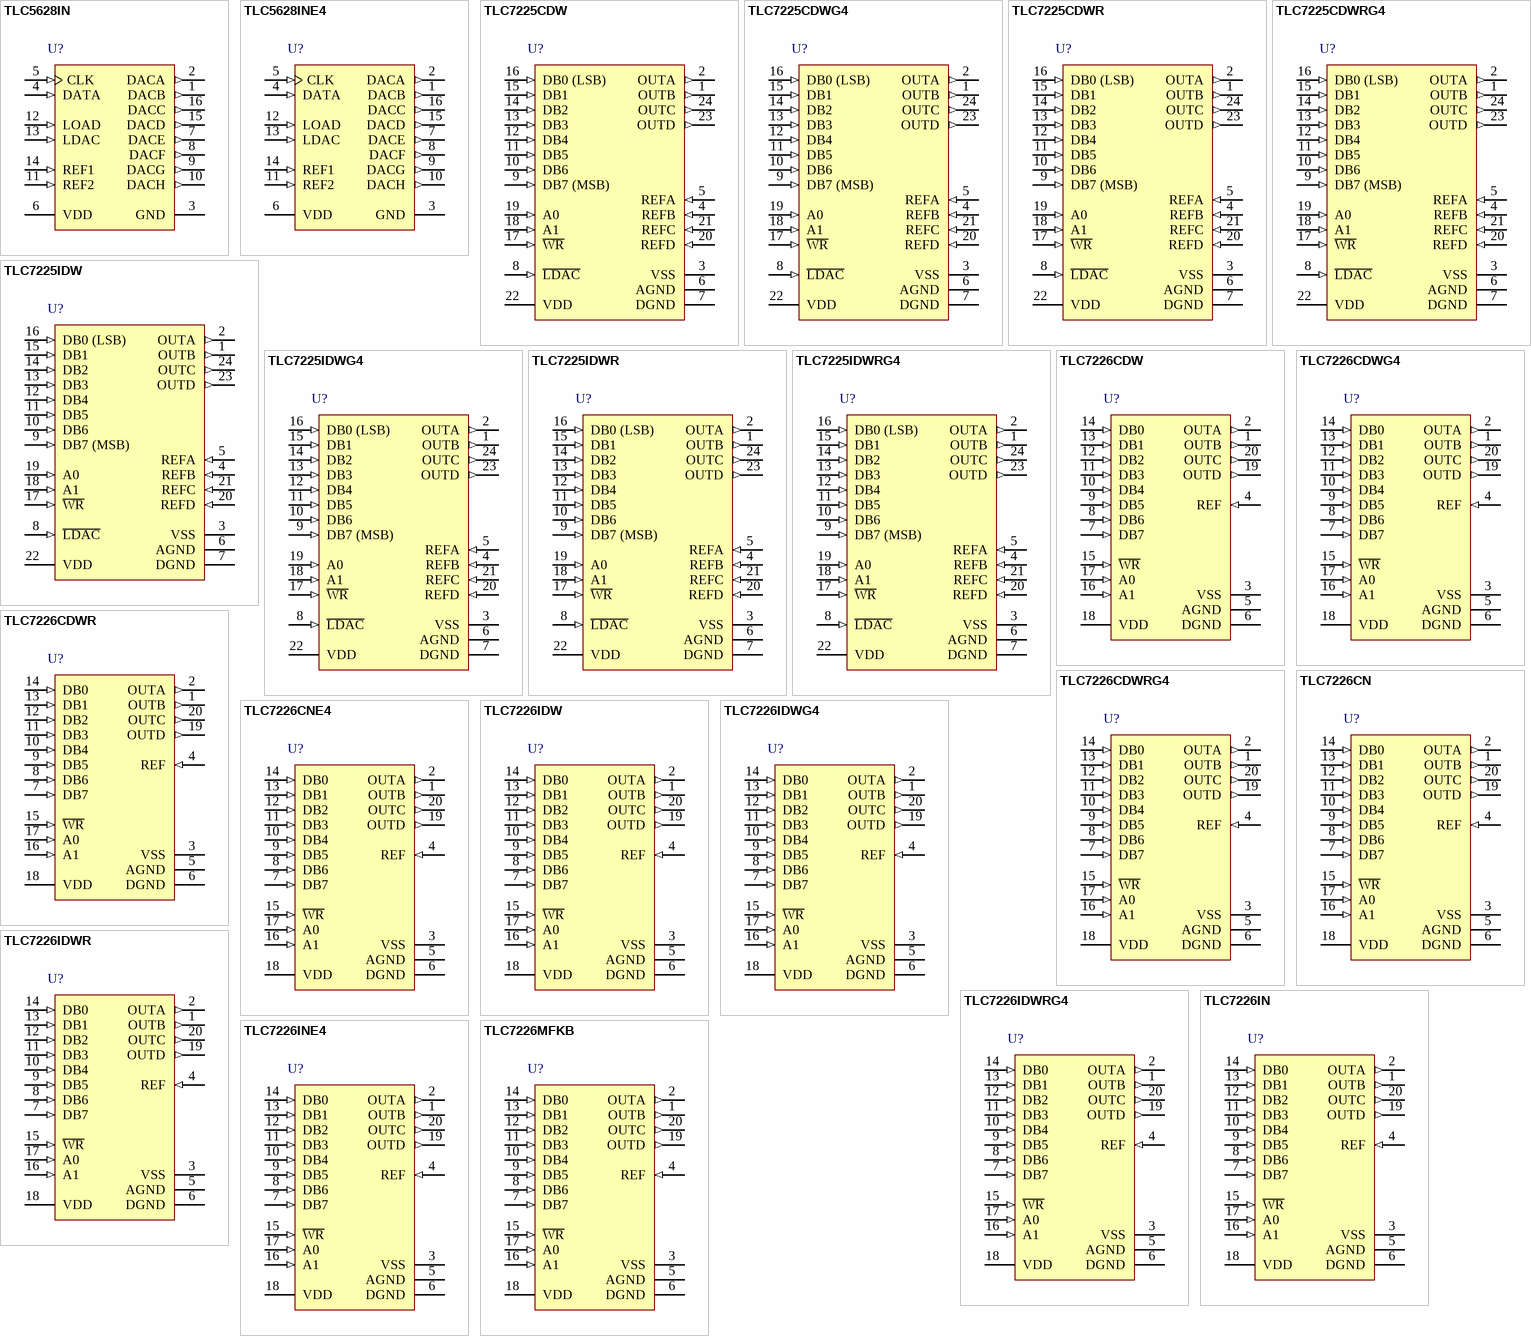
[diagram p59: symbols TLC5628IN to TLC7226MFKB]

## TLC5628IN
designator U?
8-Bit, 10 us Octal DAC, Serial Input, Programmable for 1 x or 2 x Output, Simultaneous Update, Low Power, -40 to 85 degC, 16-pin DIP (N16), Pb-Free (RoHS); Manufacturer: Texas Instruments; PartNumber: TLC5628IN; DAC Channels: 8; DNL(Max)(+/-LSB): 0.9; INL(Max)(+/-LSB): 1; Interface: Serial SPI; Power Consumption(Typ)(mW): 15; Settling Time(us): 10; SubFamily: Precision DAC (=<10MSPS); DatasheetVersion: SLAS089E; PackageVersion: 4040049/E, 12/2002; PackageReference: N16; PackageDescription: 16-Pin Plastic In-Line, Body 19.305 x 6.35 mm, Pitch 2.54 mm; Supplier 1: Digi-Key; Supplier Part Number 1: 296-3014-5-ND; Supplier 2: Mouser; Supplier Part Number 2: 595-TLC5628IN; Eco-Plan: Pb-Free (RoHS); Resolution(Bits): 8; Mounting Technology: Through Hole; Code_JEDEC: MS-001; ComponentLink1Description: Manufacturer URL; ComponentLink1URL: http://www.ti.com/; ComponentLink2Description: Datasheet; ComponentLink2URL: http://www.ti.com/general/docs/lit/getliterature.tsp?genericPartNumber=TLC5628&fileType=pdf; ComponentLink3Description: Package Specification; ComponentLink3URL: http://www.ti.com/litv/pdf/mpdi002c
footprint TI-N16 (DIP, 16-Leads, Body 19.305x6.35mm, Pitch 2.54mm)
pins: 1 DACB (out) "DACB analog output", 2 DACA (out) "DACA analog output", 3 GND (power) "Ground return and reference terminal", 4 DATA (in) "Serial-interface digital data input", 5 CLK (in) "Serial-interface clock, data enters on the negative edge", 6 VDD (power) "Positive supply voltage", 7 DACE (out) "DACE analog output", 8 DACF (out) "DACF analog output", 9 DACG (out) "DACG analog output", 10 DACH (out) "DACH analog output", 11 REF2 (in) "Reference voltage input to DACB", 12 LOAD (in) "Serial-interface load control", 13 LDAC (in) "DAC-update latch control", 14 REF1 (in) "Reference voltage input to DACA", 15 DACD (out) "DACD analog output", 16 DACC (out) "DACC analog output"

## TLC5628INE4
designator U?
8-Bit, 10 us Octal DAC, Serial Input, Programmable for 1 x or 2 x Output, Simultaneous Update, Low Power, -40 to 85 degC, 16-pin DIP (N16), Pb-Free (RoHS); Manufacturer: Texas Instruments; PartNumber: TLC5628INE4; DAC Channels: 8; DNL(Max)(+/-LSB): 0.9; INL(Max)(+/-LSB): 1; Interface: Serial SPI; Power Consumption(Typ)(mW): 15; Settling Time(us): 10; SubFamily: Precision DAC (=<10MSPS); DatasheetVersion: SLAS089E; PackageVersion: 4040049/E, 12/2002; PackageReference: N16; PackageDescription: 16-Pin Plastic In-Line, Body 19.305 x 6.35 mm, Pitch 2.54 mm; Supplier 1: Digi-Key; Supplier Part Number 1: TLC5628INE4-ND; Supplier 2: Mouser; Supplier Part Number 2: 595-TLC5628INE4; Eco-Plan: Pb-Free (RoHS); Resolution(Bits): 8; Mounting Technology: Through Hole; Code_JEDEC: MS-001; ComponentLink1Description: Manufacturer URL; ComponentLink1URL: http://www.ti.com/; ComponentLink2Description: Datasheet; ComponentLink2URL: http://www.ti.com/general/docs/lit/getliterature.tsp?genericPartNumber=TLC5628&fileType=pdf; ComponentLink3Description: Package Specification; ComponentLink3URL: http://www.ti.com/litv/pdf/mpdi002c
footprint TI-N16 (DIP, 16-Leads, Body 19.305x6.35mm, Pitch 2.54mm)
pins: 1 DACB (out) "DACB analog output", 2 DACA (out) "DACA analog output", 3 GND (power) "Ground return and reference terminal", 4 DATA (in) "Serial-interface digital data input", 5 CLK (in) "Serial-interface clock, data enters on the negative edge", 6 VDD (power) "Positive supply voltage", 7 DACE (out) "DACE analog output", 8 DACF (out) "DACF analog output", 9 DACG (out) "DACG analog output", 10 DACH (out) "DACH analog output", 11 REF2 (in) "Reference voltage input to DACB", 12 LOAD (in) "Serial-interface load control", 13 LDAC (in) "DAC-update latch control", 14 REF1 (in) "Reference voltage input to DACA", 15 DACD (out) "DACD analog output", 16 DACC (out) "DACC analog output"

## TLC7225CDW
designator U?
8-Bit, 5 us Quad DAC, Parallel Input, Simultaneous Update, Binary Input Coding, 0 to 70 degC, 24-pin SOIC (DW24), Green (RoHS & no Sb/Br); Manufacturer: Texas Instruments; PartNumber: TLC7225CDW; DAC Channels: 4; DNL(Max)(+/-LSB): 1; Power Consumption(Typ)(mW): 75; Resolution(Bits): 8; Settling Time(us): 5; SubFamily: Precision DAC (=<10MSPS); DatasheetVersion: SLAS109B; PackageVersion: 4040000-5/G, 01/2011; PackageReference: DW24; PackageDescription: 24-Pin Plastic Small Outline, Body 15.4 x 7.5 mm, Pitch 1.27 mm; Supplier 1: Digi-Key; Supplier Part Number 1: 296-3015-5-ND; Supplier 2: Newark; Supplier Part Number 2: 83F9162; Supplier 3: Mouser; Supplier Part Number 3: 595-TLC7225CDW; Eco-Plan: Green (RoHS & no Sb/Br); INL(Max)(+/-LSB): 1; Interface: Parallel; Mounting Technology: Surface Mount; Code_JEDEC: MS-013; ComponentLink1Description: Manufacturer URL; ComponentLink1URL: http://www.ti.com/; ComponentLink2Description: Datasheet; ComponentLink2URL: http://www.ti.com/general/docs/lit/getliterature.tsp?genericPartNumber=TLC7225&fileType=pdf; ComponentLink3Description: Package Specification; ComponentLink3URL: http://www.ti.com/litv/pdf/mpds174a
footprint TI-DW24_N (SOIC, 24-Leads, Body 15.4x7.5mm, Pitch 1.27mm, IPC Medium Density)
footprint TI-DW24_L (SOIC, 24-Leads, Body 15.4x7.5mm, Pitch 1.27mm, IPC High Density)
footprint TI-DW24_M (SOIC, 24-Leads, Body 15.4x7.5mm, Pitch 1.27mm, IPC Low Density)
pins: 1 OUTB (out) "DACB output", 2 OUTA (out) "DACA output", 3 VSS (power) "Negative supply voltage", 4 REFB (in) "Voltage reference input to DACB", 5 REFA (in) "Voltage reference input to DACA", 6 AGND (power) "Analog ground", 7 DGND (power) "Digital ground", 8 ~{LDAC} (in) "Load DAC. A high level simultaneously loads all four DAC registers. DAC registers are transparent when L\D\A\C\ is low", 9 DB7 (MSB) (in) "Digital DAC data input", 10 DB6 (in) "Digital DAC data input", 11 DB5 (in) "Digital DAC data input", 12 DB4 (in) "Digital DAC data input", 13 DB3 (in) "Digital DAC data input", 14 DB2 (in) "Digital DAC data input", 15 DB1 (in) "Digital DAC data input", 16 DB0 (LSB) (in) "Digital DAC data input", 17 ~{WR} (in) "Write input selects DAC transparency or latch mode", 18 A1 (in) "DAC select inputs", 19 A0 (in) "DAC select inputs", 20 REFD (in) "Voltage reference input to DACD", 21 REFC (in) "Voltage reference input to DACC", 22 VDD (power) "Positive supply voltage", 23 OUTD (out) "DACD output", 24 OUTC (out) "DACC output"

## TLC7225CDWG4
designator U?
8-Bit, 5 us Quad DAC, Parallel Input, Simultaneous Update, Binary Input Coding, 0 to 70 degC, 24-pin SOIC (DW24), Green (RoHS & no Sb/Br); Manufacturer: Texas Instruments; PartNumber: TLC7225CDWG4; DAC Channels: 4; DNL(Max)(+/-LSB): 1; Power Consumption(Typ)(mW): 75; Resolution(Bits): 8; Settling Time(us): 5; SubFamily: Precision DAC (=<10MSPS); DatasheetVersion: SLAS109B; PackageVersion: 4040000-5/G, 01/2011; PackageReference: DW24; PackageDescription: 24-Pin Plastic Small Outline, Body 15.4 x 7.5 mm, Pitch 1.27 mm; Supplier 1: Digi-Key; Supplier Part Number 1: TLC7225CDWG4-ND; Supplier 2: Mouser; Supplier Part Number 2: 595-TLC7225CDWG4; Eco-Plan: Green (RoHS & no Sb/Br); INL(Max)(+/-LSB): 1; Interface: Parallel; Mounting Technology: Surface Mount; Code_JEDEC: MS-013; ComponentLink1Description: Manufacturer URL; ComponentLink1URL: http://www.ti.com/; ComponentLink2Description: Datasheet; ComponentLink2URL: http://www.ti.com/general/docs/lit/getliterature.tsp?genericPartNumber=TLC7225&fileType=pdf; ComponentLink3Description: Package Specification; ComponentLink3URL: http://www.ti.com/litv/pdf/mpds174a
footprint TI-DW24_N (SOIC, 24-Leads, Body 15.4x7.5mm, Pitch 1.27mm, IPC Medium Density)
footprint TI-DW24_L (SOIC, 24-Leads, Body 15.4x7.5mm, Pitch 1.27mm, IPC High Density)
footprint TI-DW24_M (SOIC, 24-Leads, Body 15.4x7.5mm, Pitch 1.27mm, IPC Low Density)
pins: 1 OUTB (out) "DACB output", 2 OUTA (out) "DACA output", 3 VSS (power) "Negative supply voltage", 4 REFB (in) "Voltage reference input to DACB", 5 REFA (in) "Voltage reference input to DACA", 6 AGND (power) "Analog ground", 7 DGND (power) "Digital ground", 8 ~{LDAC} (in) "Load DAC. A high level simultaneously loads all four DAC registers. DAC registers are transparent when L\D\A\C\ is low", 9 DB7 (MSB) (in) "Digital DAC data input", 10 DB6 (in) "Digital DAC data input", 11 DB5 (in) "Digital DAC data input", 12 DB4 (in) "Digital DAC data input", 13 DB3 (in) "Digital DAC data input", 14 DB2 (in) "Digital DAC data input", 15 DB1 (in) "Digital DAC data input", 16 DB0 (LSB) (in) "Digital DAC data input", 17 ~{WR} (in) "Write input selects DAC transparency or latch mode", 18 A1 (in) "DAC select inputs", 19 A0 (in) "DAC select inputs", 20 REFD (in) "Voltage reference input to DACD", 21 REFC (in) "Voltage reference input to DACC", 22 VDD (power) "Positive supply voltage", 23 OUTD (out) "DACD output", 24 OUTC (out) "DACC output"

## TLC7225CDWR
designator U?
8-Bit, 5 us Quad DAC, Parallel Input, Simultaneous Update, Binary Input Coding, 0 to 70 degC, 24-pin SOIC (DW24), Green (RoHS & no Sb/Br); Manufacturer: Texas Instruments; PartNumber: TLC7225CDWR; DAC Channels: 4; DNL(Max)(+/-LSB): 1; Power Consumption(Typ)(mW): 75; Resolution(Bits): 8; Settling Time(us): 5; SubFamily: Precision DAC (=<10MSPS); DatasheetVersion: SLAS109B; PackageVersion: 4040000-5/G, 01/2011; PackageReference: DW24; PackageDescription: 24-Pin Plastic Small Outline, Body 15.4 x 7.5 mm, Pitch 1.27 mm; Supplier 1: Digi-Key; Supplier Part Number 1: TLC7225CDWR-ND; Supplier 2: Mouser; Supplier Part Number 2: 595-TLC7225CDWR; Eco-Plan: Green (RoHS & no Sb/Br); INL(Max)(+/-LSB): 1; Interface: Parallel; Mounting Technology: Surface Mount; Code_JEDEC: MS-013; ComponentLink1Description: Manufacturer URL; ComponentLink1URL: http://www.ti.com/; ComponentLink2Description: Datasheet; ComponentLink2URL: http://www.ti.com/general/docs/lit/getliterature.tsp?genericPartNumber=TLC7225&fileType=pdf; ComponentLink3Description: Package Specification; ComponentLink3URL: http://www.ti.com/litv/pdf/mpds174a
footprint TI-DW24_N (SOIC, 24-Leads, Body 15.4x7.5mm, Pitch 1.27mm, IPC Medium Density)
footprint TI-DW24_L (SOIC, 24-Leads, Body 15.4x7.5mm, Pitch 1.27mm, IPC High Density)
footprint TI-DW24_M (SOIC, 24-Leads, Body 15.4x7.5mm, Pitch 1.27mm, IPC Low Density)
pins: 1 OUTB (out) "DACB output", 2 OUTA (out) "DACA output", 3 VSS (power) "Negative supply voltage", 4 REFB (in) "Voltage reference input to DACB", 5 REFA (in) "Voltage reference input to DACA", 6 AGND (power) "Analog ground", 7 DGND (power) "Digital ground", 8 ~{LDAC} (in) "Load DAC. A high level simultaneously loads all four DAC registers. DAC registers are transparent when L\D\A\C\ is low", 9 DB7 (MSB) (in) "Digital DAC data input", 10 DB6 (in) "Digital DAC data input", 11 DB5 (in) "Digital DAC data input", 12 DB4 (in) "Digital DAC data input", 13 DB3 (in) "Digital DAC data input", 14 DB2 (in) "Digital DAC data input", 15 DB1 (in) "Digital DAC data input", 16 DB0 (LSB) (in) "Digital DAC data input", 17 ~{WR} (in) "Write input selects DAC transparency or latch mode", 18 A1 (in) "DAC select inputs", 19 A0 (in) "DAC select inputs", 20 REFD (in) "Voltage reference input to DACD", 21 REFC (in) "Voltage reference input to DACC", 22 VDD (power) "Positive supply voltage", 23 OUTD (out) "DACD output", 24 OUTC (out) "DACC output"

## TLC7225CDWRG4
designator U?
8-Bit, 5 us Quad DAC, Parallel Input, Simultaneous Update, Binary Input Coding, 0 to 70 degC, 24-pin SOIC (DW24), Green (RoHS & no Sb/Br); Manufacturer: Texas Instruments; PartNumber: TLC7225CDWRG4; DAC Channels: 4; DNL(Max)(+/-LSB): 1; Power Consumption(Typ)(mW): 75; Resolution(Bits): 8; Settling Time(us): 5; SubFamily: Precision DAC (=<10MSPS); DatasheetVersion: SLAS109B; PackageVersion: 4040000-5/G, 01/2011; PackageReference: DW24; PackageDescription: 24-Pin Plastic Small Outline, Body 15.4 x 7.5 mm, Pitch 1.27 mm; Supplier 1: Digi-Key; Supplier Part Number 1: TLC7225CDWRG4-ND; Supplier 2: Mouser; Supplier Part Number 2: 595-TLC7225CDWRG4; Eco-Plan: Green (RoHS & no Sb/Br); INL(Max)(+/-LSB): 1; Interface: Parallel; Mounting Technology: Surface Mount; Code_JEDEC: MS-013; ComponentLink1Description: Manufacturer URL; ComponentLink1URL: http://www.ti.com/; ComponentLink2Description: Datasheet; ComponentLink2URL: http://www.ti.com/general/docs/lit/getliterature.tsp?genericPartNumber=TLC7225&fileType=pdf; ComponentLink3Description: Package Specification; ComponentLink3URL: http://www.ti.com/litv/pdf/mpds174a
footprint TI-DW24_N (SOIC, 24-Leads, Body 15.4x7.5mm, Pitch 1.27mm, IPC Medium Density)
footprint TI-DW24_L (SOIC, 24-Leads, Body 15.4x7.5mm, Pitch 1.27mm, IPC High Density)
footprint TI-DW24_M (SOIC, 24-Leads, Body 15.4x7.5mm, Pitch 1.27mm, IPC Low Density)
pins: 1 OUTB (out) "DACB output", 2 OUTA (out) "DACA output", 3 VSS (power) "Negative supply voltage", 4 REFB (in) "Voltage reference input to DACB", 5 REFA (in) "Voltage reference input to DACA", 6 AGND (power) "Analog ground", 7 DGND (power) "Digital ground", 8 ~{LDAC} (in) "Load DAC. A high level simultaneously loads all four DAC registers. DAC registers are transparent when L\D\A\C\ is low", 9 DB7 (MSB) (in) "Digital DAC data input", 10 DB6 (in) "Digital DAC data input", 11 DB5 (in) "Digital DAC data input", 12 DB4 (in) "Digital DAC data input", 13 DB3 (in) "Digital DAC data input", 14 DB2 (in) "Digital DAC data input", 15 DB1 (in) "Digital DAC data input", 16 DB0 (LSB) (in) "Digital DAC data input", 17 ~{WR} (in) "Write input selects DAC transparency or latch mode", 18 A1 (in) "DAC select inputs", 19 A0 (in) "DAC select inputs", 20 REFD (in) "Voltage reference input to DACD", 21 REFC (in) "Voltage reference input to DACC", 22 VDD (power) "Positive supply voltage", 23 OUTD (out) "DACD output", 24 OUTC (out) "DACC output"